# Altium footprint library DI_3MM_BW5X10MM_BI.PcbLib: 1 footprints
Each footprint in its own frame and in the unit in brackets; x right, y up, seen from the top. Pads: shape width x height; smd on the part's side, far side on the other; paste and mask are expansions set on the pad; w line width, h text height; cw(c..) or ccw(c..) is an arc to the next point about the centre after c.
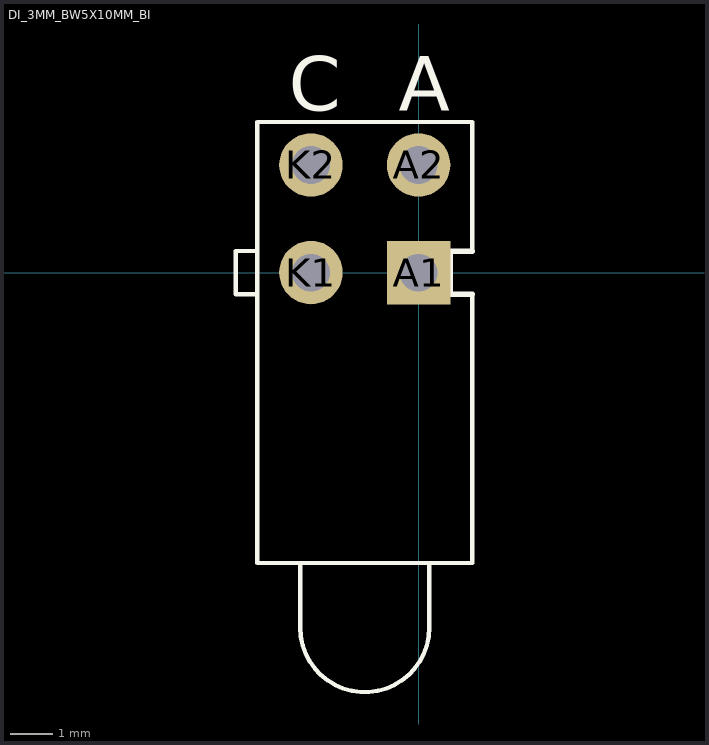
[diagram p0: the footprint, top view; thin cyan lines are the x and y axes]

## DI_3MM_BW5X10MM_BI [mil] "DI_3MM_BW5X10MM_BI"
pads (4):
  rect 59x59 hole 35: A1(0,0)
  round 59 hole 35: A2(0,100) K1(-100,0) K2(-100,100)
Top Overlay:
  lines w4: -150,-20 -170,-20 -170,20 -150,20 ; -110,-270 -110,-330 ccw(c-50,-330) 10,-330 10,-270 ; 30,-20 30,20 ; 50,-20 50,-270 -150,-270 -150,140 50,140 50,20
  lines w5: 30,-20 50,-20 ; 30,20 50,20
  text "C" at -120.87,150.47 h51
  text "A" at -18.5,150.47 h51
3D body: height 192.91, standoff 0, extent -169.98,-19.98 -150.02,19.98
3D body: height 159.06, standoff 40.94, extent -108.44,-388.79 9.06,-271.19
3D body: height 359.06, standoff 240.94, extent -108.44,-388.79 9.06,-271.19
3D body: height 158.94, standoff 41.06, extent -108.51,-330.25 9.13,-271.19
3D body: height 358.94, standoff 241.06, extent -108.75,-330.26 8.89,-271.2
3D body: height 400, standoff 0, extent -149.98,-269.98 49.98,139.98